# Altium footprint library INF-VQFN-48-29_L.PcbLib: 1 footprints
Each footprint in its own frame and in the unit in brackets; x right, y up, seen from the top. Pads: shape width x height; smd on the part's side, far side on the other; paste and mask are expansions set on the pad; w line width, h text height; cw(c..) or ccw(c..) is an arc to the next point about the centre after c.
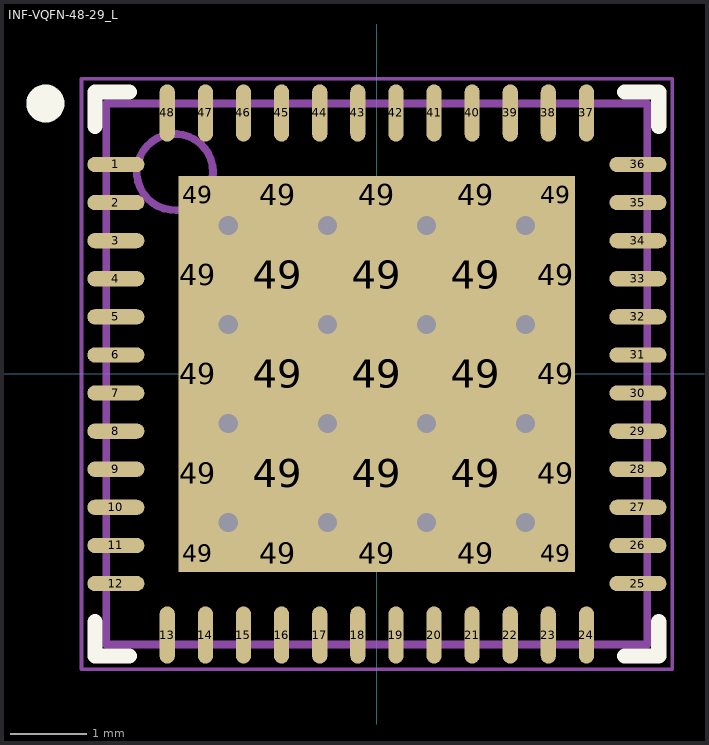
[diagram p0: the footprint, top view; thin cyan lines are the x and y axes]

## INF-VQFN-48-29_L [mm] "QFN, 48-Leads, Body 7x7mm, Pitch 0.5mm, Thermal Pad 5.2x5.2mm, IPC High Density"
height 0.9
pads (74):
  oval 0.75x0.2 smd: 1(-3.425,2.75) 2(-3.425,2.25) 3(-3.425,1.75) 4(-3.425,1.25) 5(-3.425,0.75) 6(-3.425,0.25) 7(-3.425,-0.25) 8(-3.425,-0.75) 9(-3.425,-1.25) 10(-3.425,-1.75) 11(-3.425,-2.25) 12(-3.425,-2.75) 25(3.425,-2.75) 26(3.425,-2.25) 27(3.425,-1.75) 28(3.425,-1.25) 29(3.425,-0.75) 30(3.425,-0.25) 31(3.425,0.25) 32(3.425,0.75) 33(3.425,1.25) 34(3.425,1.75) 35(3.425,2.25) 36(3.425,2.75)
  oval 0.2x0.75 smd: 13(-2.75,-3.425) 14(-2.25,-3.425) 15(-1.75,-3.425) 16(-1.25,-3.425) 17(-0.75,-3.425) 18(-0.25,-3.425) 19(0.25,-3.425) 20(0.75,-3.425) 21(1.25,-3.425) 22(1.75,-3.425) 23(2.25,-3.425) 24(2.75,-3.425) 37(2.75,3.425) 38(2.25,3.425) 39(1.75,3.425) 40(1.25,3.425) 41(0.75,3.425) 42(0.25,3.425) 43(-0.25,3.425) 44(-0.75,3.425) 45(-1.25,3.425) 46(-1.75,3.425) 47(-2.25,3.425) 48(-2.75,3.425)
  rect 0.5x0.5 smd: 49(-2.35,-2.35) 49(-2.35,2.35) 49(2.35,-2.35) 49(2.35,2.35)
  rect 0.5x1 smd: 49(-2.35,-1.3) 49(-2.35,0) 49(-2.35,1.3) 49(2.35,-1.3) 49(2.35,0) 49(2.35,1.3)
  rect 1x0.5 smd: 49(-1.3,-2.35) 49(-1.3,2.35) 49(0,-2.35) 49(0,2.35) 49(1.3,-2.35) 49(1.3,2.35)
  rect 1x1 smd: 49(-1.3,-1.3) 49(-1.3,0) 49(-1.3,1.3) 49(0,-1.3) 49(0,0) 49(0,1.3) 49(1.3,-1.3) 49(1.3,0) 49(1.3,1.3)
  rect 5.2x5.2 smd paste-5.2: 49(0,0)
via 0.65,0.65 diameter 0.55 hole 0.25
via 1.95,0.65 diameter 0.55 hole 0.25
via 1.95,1.95 diameter 0.55 hole 0.25
via 0.65,1.95 diameter 0.55 hole 0.25
via -1.95,0.65 diameter 0.55 hole 0.25
via -1.95,1.95 diameter 0.55 hole 0.25
via -0.65,1.95 diameter 0.55 hole 0.25
via -0.65,0.65 diameter 0.55 hole 0.25
via 1.95,-0.65 diameter 0.55 hole 0.25
via 1.95,-1.95 diameter 0.55 hole 0.25
via 0.65,-1.95 diameter 0.55 hole 0.25
via 0.65,-0.65 diameter 0.55 hole 0.25
via -0.65,-1.95 diameter 0.55 hole 0.25
via -1.95,-1.95 diameter 0.55 hole 0.25
via -1.95,-0.65 diameter 0.55 hole 0.25
via -0.65,-0.65 diameter 0.55 hole 0.25
Top Overlay:
  circle w0.25: c-4.35,3.55 r0.125
  lines w0.2: -3.7,-3.25 -3.7,-3.7 -3.25,-3.7 ; -3.7,3.25 -3.7,3.7 -3.25,3.7 ; 3.25,-3.7 3.7,-3.7 3.7,-3.25 ; 3.25,3.7 3.7,3.7 3.7,3.25
Mechanical 13:
  circle w0.1: c-2.65,2.65 r0.5
  lines w0.1: -3.55,-3.55 -3.55,3.55 3.55,3.55 3.55,-3.55 -3.55,-3.55
Mechanical 15:
  lines w0.05: -3.875,-3.875 -3.875,3.875 3.875,3.875 3.875,-3.875 -3.875,-3.875
  lines w0.1: -0.5,0 0.5,0 ; 0,-0.5 0,0.5
3D body "User Library-QFN48-1.STEP": height 0.83, standoff -0.02, extent -3.505,-3.505 3.505,3.5